# Altium footprint library Microchip ADC.PcbLib: 2 footprints
Each footprint in its own frame and in the unit in brackets; x right, y up, seen from the top. Pads: shape width x height; smd on the part's side, far side on the other; paste and mask are expansions set on the pad; w line width, h text height; cw(c..) or ccw(c..) is an arc to the next point about the centre after c.
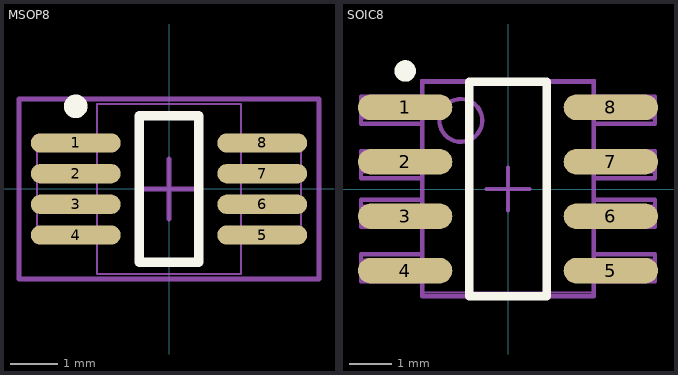
[diagram p0: the footprints below, top view; thin cyan lines are the x and y axes]

## MSOP8 [mm] "Surface mounted, 8 pin package"
height 1.1
pads (8):
  oval 1.9x0.41 smd: 1(-1.975,0.975) 2(-1.975,0.325) 3(-1.975,-0.325) 4(-1.975,-0.975) 5(1.975,-0.975) 6(1.975,-0.325) 7(1.975,0.325) 8(1.975,0.975)
Top Overlay:
  circle w0.25: c-1.975,1.75 r0.125
  lines w0.2: -0.625,-1.55 0.625,-1.55 0.625,1.55 -0.625,1.55 -0.625,-1.55
Mechanical 13:
  lines w0.05: -1.524,-1.143 -2.794,-1.143 -2.794,1.143 -1.524,1.143 ; 1.524,-1.143 2.794,-1.143 2.794,1.143 1.524,1.143 ; -1.524,-1.8 1.524,-1.8 1.524,1.8 -1.524,1.8 -1.524,-1.8
  text ".Designator" at -0.762,-0.381 h0.7
  text "1" at -2.286,1.397 h0.5
Mechanical 15:
  lines w0.1: -0.635,0 0.635,0 ; 0,-0.635 0,0.635 ; -3.175,-1.905 3.175,-1.905 3.175,1.905 -3.175,1.905 -3.175,-1.905
3D body "MSOP8.STEP": height 1.15, standoff 0, extent -2.45,-1.5 2.45,1.5

## SOIC8 [mm] "SOIC, 8-Leads, Body 4,90x3,90mm, Pitch 1,27mm, IPC Medium Density"
height 1.75
pads (8):
  oval 2.2x0.6 smd: 1(-2.4,1.905) 2(-2.4,0.635) 3(-2.4,-0.635) 4(-2.4,-1.905) 5(2.4,-1.905) 6(2.4,-0.635) 7(2.4,0.635) 8(2.4,1.905)
Top Overlay:
  circle w0.25: c-2.4,2.755 r0.125
  lines w0.2: -0.9,-2.5 0.9,-2.5 0.9,2.5 -0.9,2.5 -0.9,-2.5
Mechanical 13:
  circle w0.1: c-1.1,1.6 r0.5
  lines w0.1: -2,-2.159 -3.429,-2.159 -3.429,-1.524 -2,-1.524 ; -2,-0.889 -3.429,-0.889 -3.429,-0.254 -2,-0.254 ; -2,0.254 -3.429,0.254 -3.429,0.889 -2,0.889 ; -2,1.524 -3.429,1.524 -3.429,2.159 -2,2.159 ; 2,-2.159 3.429,-2.159 3.429,-1.524 2,-1.524 ; 2,-0.889 3.429,-0.889 3.429,-0.254 2,-0.254 ; 2,0.254 3.429,0.254 3.429,0.889 2,0.889 ; 2,1.524 3.429,1.524 3.429,2.159 2,2.159 ; -2,-2.5 2,-2.5 2,2.5 -2,2.5 -2,-2.5
  text "1" at -2.794,2.413 h0.5
  text ".Designator" at -1.27,-0.635 h1.52
Mechanical 15:
  lines w0.05: -2.032,-2.159 -3.429,-2.159 -3.429,-1.651 -2.032,-1.651 ; -2.032,-0.889 -3.429,-0.889 -3.429,-0.381 -2.032,-0.381 ; -2.032,0.381 -3.429,0.381 -3.429,0.889 -2.032,0.889 ; -2.032,1.651 -3.429,1.651 -3.429,2.159 -2.032,2.159 ; 2.032,-2.159 3.429,-2.159 3.429,-1.651 2.032,-1.651 ; 2.032,-0.889 3.429,-0.889 3.429,-0.381 2.032,-0.381 ; 2.032,0.381 3.429,0.381 3.429,0.889 2.032,0.889 ; 2.032,1.651 3.429,1.651 3.429,2.159 2.032,2.159 ; -2.032,-2.413 2.032,-2.413 2.032,2.54 -2.032,2.54 -2.032,-2.413
  lines w0.1: -0.5,0 0.5,0 ; 0,-0.5 0,0.5
  text "1" at -2.794,2.413 h0.5
3D body "SO8.STEP": height 1.61, standoff 0.01, extent -2.995,-2.45 2.995,2.45